# EAGLE library part CONNECTOR_12 (library SnapEDA)
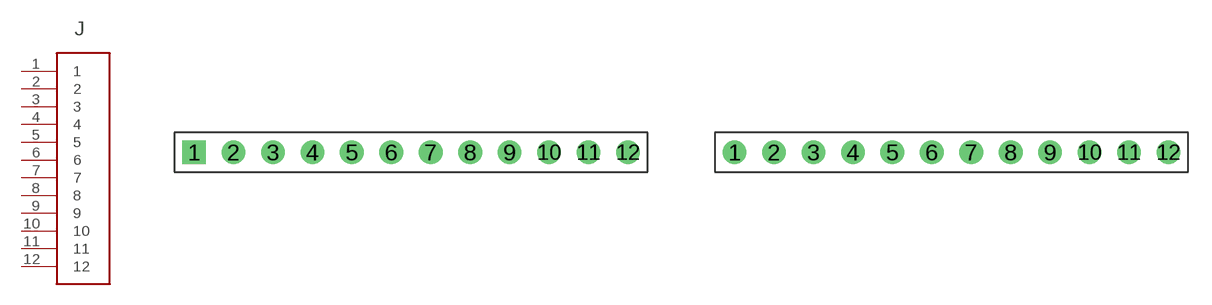
[diagram p14: symbol with the pads of 68000-112HLF; footprints 68000-112HLF, 68000-112HLF_NO_SQUARE]

Designator prefix J

## CONNECTOR_12  [68000-112HLF]
1  1
2  2
3  3
4  4
5  5
6  6
7  7
8  8
9  9
10  10
11  11
12  12

## CONNECTOR_12-NO_SQUARE  [68000-112HLF_NO_SQUARE]
Pads as for 68000-112HLF

## Footprint 68000-112HLF (pad centres in mm)
drill 1.016 square: 1 -13.97,0
drill 1.016: 2 -11.43,0; 3 -8.89,0; 4 -6.35,0; 5 -3.81,0; 6 -1.27,0; 7 1.27,0; 8 3.81,0; 9 6.35,0; 10 8.89,0; 11 11.43,0; 12 13.97,0

## Footprint 68000-112HLF_NO_SQUARE (pad centres in mm)
drill 1.016: 1 -13.97,0; 2 -11.43,0; 3 -8.89,0; 4 -6.35,0; 5 -3.81,0; 6 -1.27,0; 7 1.27,0; 8 3.81,0; 9 6.35,0; 10 8.89,0; 11 11.43,0; 12 13.97,0